# EAGLE library part ARDUINO_UNO_REV4_WIFI (library Group Electornics Library v80)
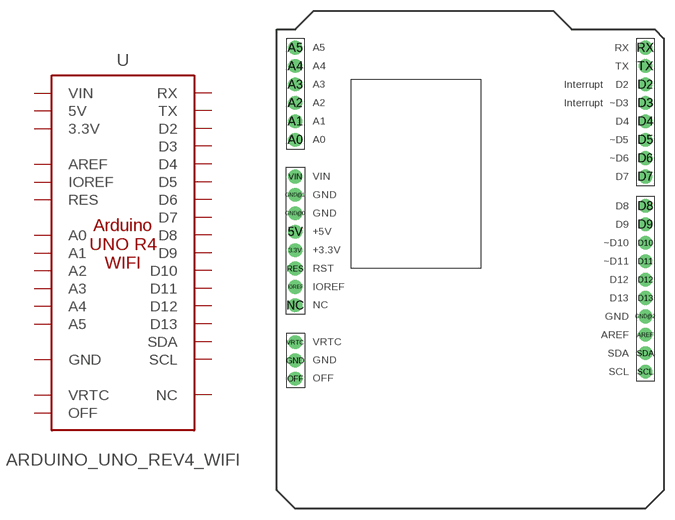
[diagram p4: symbol with the pads of ARDUINO_UNO_R4_WIFI_SHIELD; footprint ARDUINO_UNO_R4_WIFI_SHIELD]

Designator prefix -

## ARDUINO_UNO_REV4_WIFI  [ARDUINO_UNO_R4_WIFI_SHIELD]
3.3V  3.3V
5V  5V
A0  A0
A1  A1
A2  A2
A3  A3
A4  A4
A5  A5
AREF  AREF
D2  D2
D3  D3
D4  D4
D5  D5
D6  D6
D7  D7
D8  D8
D9  D9
D10  D10
D11  D11
D12  D12
D13  D13
GND  GND
GND@0  GND
GND@1  GND
GND@2  GND
IOREF  IOREF
NC  NC
OFF  OFF
RES  RES
RX  RX
SCL  SCL
SDA  SDA
TX  TX
VIN  VIN
VRTC  VRTC

## Footprint ARDUINO_UNO_R4_WIFI_SHIELD (pad centres in mm)
Arduino Uno-Compatible Footprint No holes, no ICSP connections. Specifications: Pin count: 32 Pin pitch: 0.1" Area:2.1x2.35" Example device(s): Arduino Uno R3 Shield
drill 1.016 pad 1.88: 3.3V 2.87,35.46; 5V 2.87,38; A0 2.87,50.7; A1 2.87,53.24; A2 2.87,55.78; A3 2.87,58.32; A4 2.87,60.86; A5 2.87,63.4; AREF 51.13,23.78; D2 51.13,58.32; D3 51.13,55.78; D4 51.13,53.24; D5 51.13,50.7; D6 51.13,48.16; D7 51.13,45.62; D8 51.13,41.56; D9 51.13,39.02; D10 51.13,36.48; D11 51.13,33.94; D12 51.13,31.4; D13 51.13,28.86; GND 2.87,20.24; GND@0 2.87,40.54; GND@1 2.87,43.08; GND@2 51.13,26.32; IOREF 2.87,30.38; NC 2.87,27.84; OFF 2.87,17.74; RES 2.87,32.92; RX 51.13,63.4; SCL 51.13,18.7; SDA 51.13,21.24; TX 51.13,60.86; VIN 2.87,45.62; VRTC 2.87,22.74